# Altium footprint library Phoenix.PcbLib: 4 footprints
Each footprint in its own frame and in the unit in brackets; x right, y up, seen from the top. Pads: shape width x height; smd on the part's side, far side on the other; paste and mask are expansions set on the pad; w line width, h text height; cw(c..) or ccw(c..) is an arc to the next point about the centre after c.
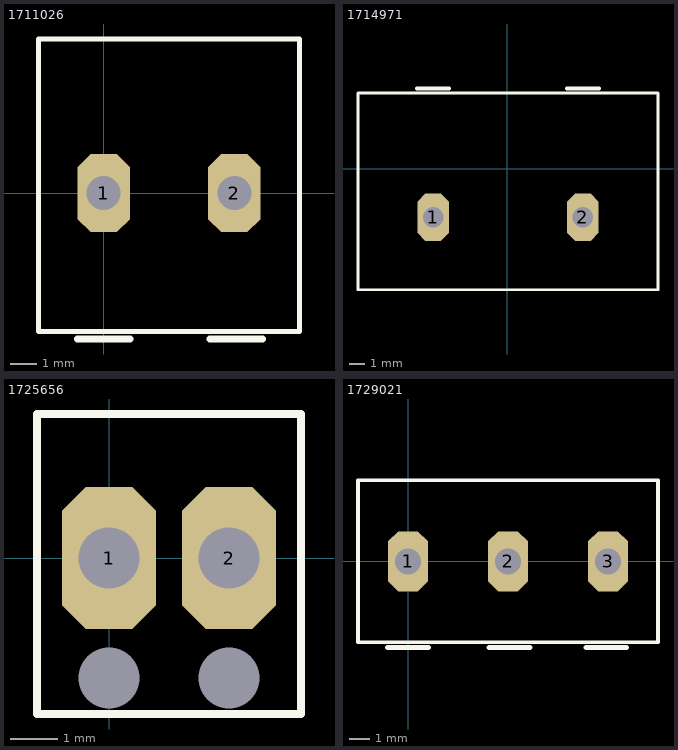
[diagram p0: the footprints below, top view; thin cyan lines are the x and y axes]

## 1711026 [mm] "CONN TERM BLOCK 2POS 5MM PCB 18mm height"
pads (2):
  oct 2x3 hole 1.3: 1(0,0) 2(5,0)
Top Overlay:
  lines w0.178: -2.5,-5.3 -2.5,5.9 7.5,5.9 7.5,-5.3 -2.5,-5.3
  lines w0.254: -1.016,-5.588 1.016,-5.588 ; 4.064,-5.588 6.096,-5.588
3D body: height 18, standoff -5, extent -2.999,-5.358 7.571,5.842

## 1714971 [mm] "2 position screw terminal block 30A"
pads (2):
  oct 2x3 hole 1.3: 1(-4.703,-3.096) 2(4.817,-3.096)
Top Overlay:
  lines w0.178: -9.468,-7.696 -9.468,4.804 9.587,4.804 9.587,-7.696 -9.468,-7.696
  lines w0.254: -5.719,5.092 -3.687,5.092 ; 3.801,5.092 5.833,5.092
3D body: height 21.5, standoff -5, extent -9.539,-7.742 10.071,4.758

## 1725656 [mm] "CONN TERM BLOCK 2.54MM 2POS"
pads (4):
  oct 2x3 hole 1.3: 1(0,0) 2(2.54,0)
  oct 0x0 hole 1.3: 12(0,-2.54) 13(2.54,-2.54)
Top Overlay:
  lines w0.178: -1.524,-3.302 4.064,-3.302 4.064,3.048 -1.524,3.048 -1.524,-3.302
3D body: height 8.53, standoff -3.47, extent -1.5,-3.099 4.04,3.101

## 1729021 [mm] "CONN TERM BLOCK 3POS 5MM PCB 10mm height"
pads (3):
  oct 2x3 hole 1.3: 1(0,0) 2(5,0) 3(10,0)
Top Overlay:
  lines w0.178: -2.5,-4.05 -2.5,4.05 12.5,4.05 12.5,-4.05 -2.5,-4.05
  lines w0.254: -1.016,-4.318 1.016,-4.318 ; 4.064,-4.318 6.096,-4.318 ; 8.89,-4.318 10.922,-4.318
3D body: height 10, standoff -3.5, extent -3.048,-4.064 12.522,4.086